# EAGLE library part POT_CTS (library wheat)
POT, DUAL., CTS TYPE 380
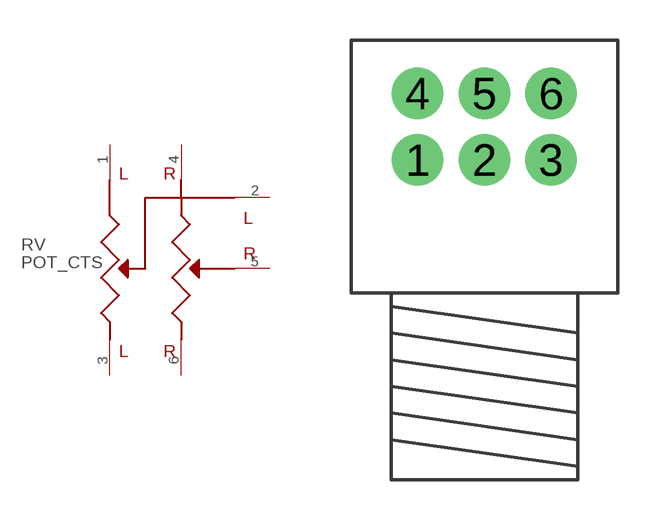
[diagram p9: symbol with the pads of CTSPOT; footprint CTSPOT]

Designator prefix RV

## POT_CTS  [CTSPOT]
1  1  pas
2  2  pas
3  3  pas
4  4  pas
5  5  pas
6  6  pas

## Footprint CTSPOT (pad centres in mm)
POT, DUAL, CTS TYPE 580
drill 1.016 pad 1.93: 1 -2.5,5; 2 0,5; 3 2.5,5; 4 -2.5,7.5; 5 0,7.5; 6 2.5,7.5